# Altium footprint library PcbLib1.PcbLib: 26 footprints (part 1 of 2)
Each footprint in its own frame and in the unit in brackets; x right, y up, seen from the top. Pads: shape width x height; smd on the part's side, far side on the other; paste and mask are expansions set on the pad; w line width, h text height; cw(c..) or ccw(c..) is an arc to the next point about the centre after c.
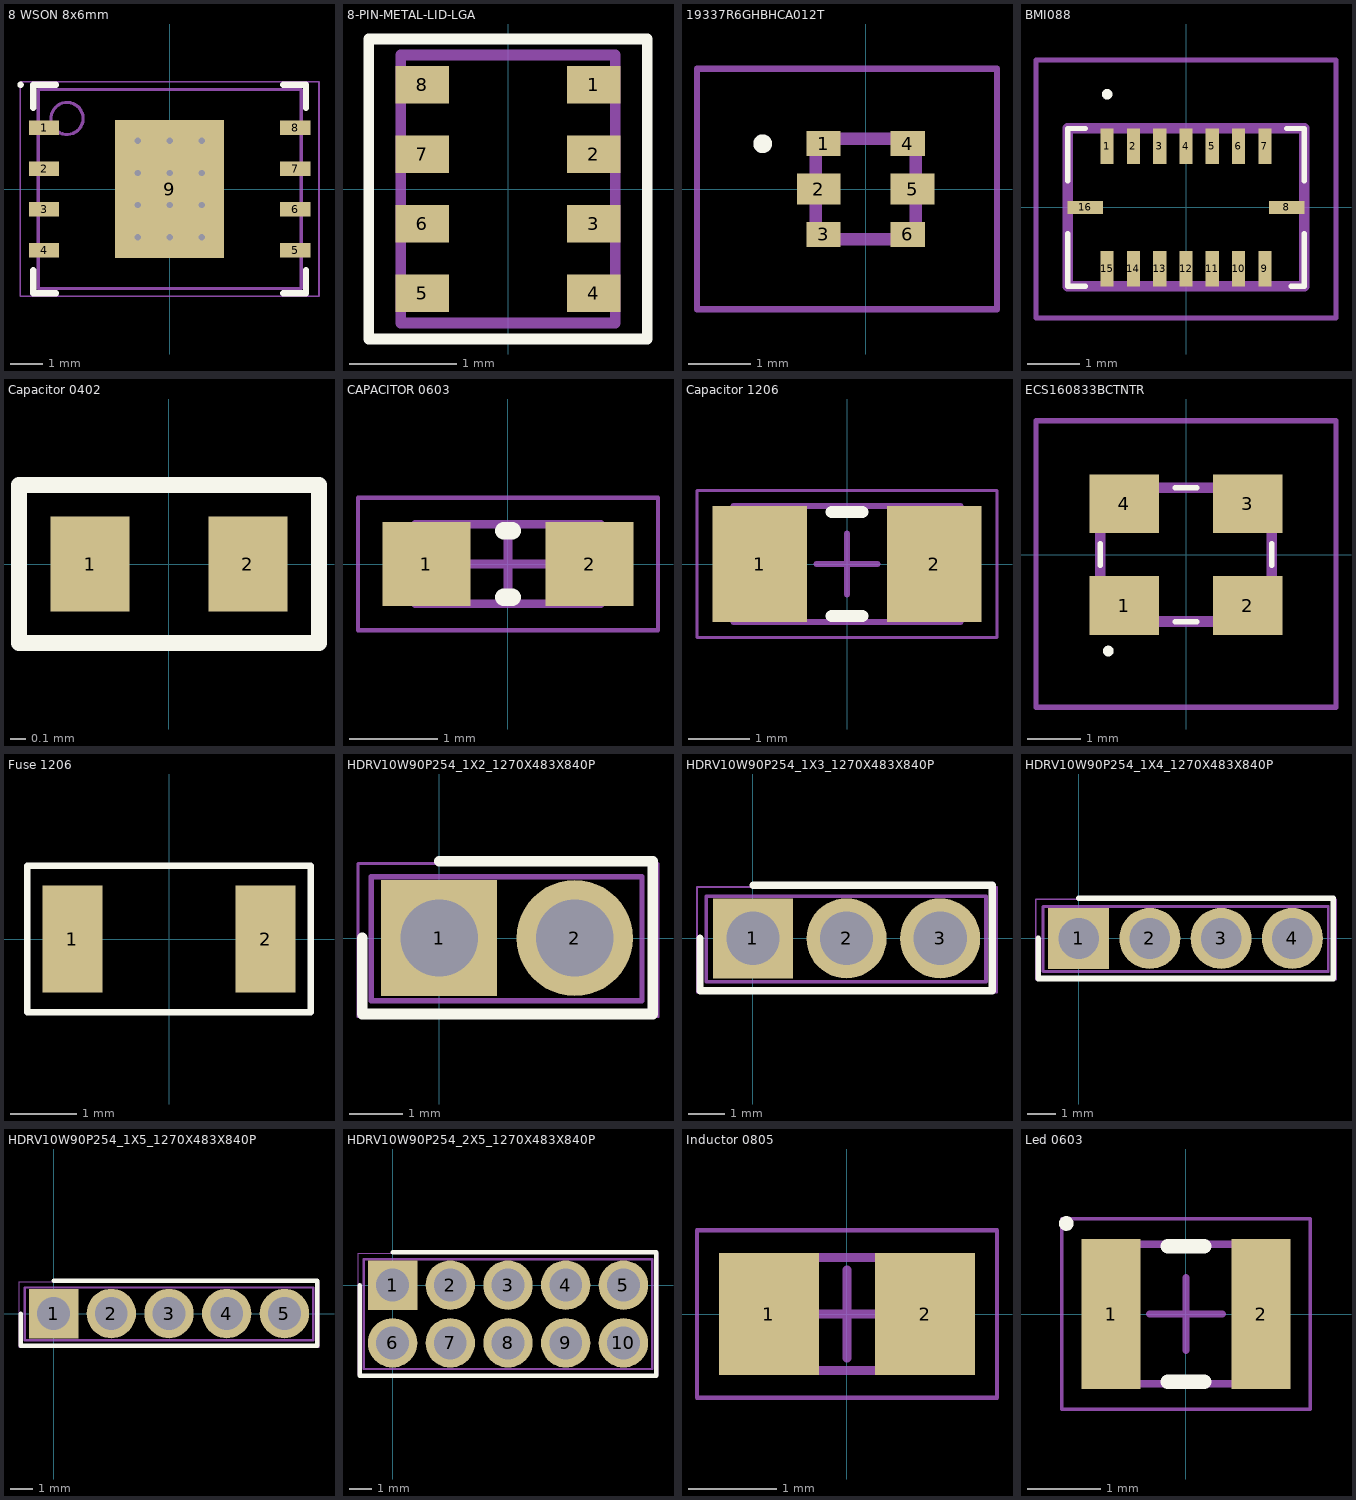
[diagram p0: the footprints below, top view; thin cyan lines are the x and y axes]

## 8 WSON 8x6mm [mm] "SON, 8-Leads, Body 6.10x8.10mm, Pitch 1.27mm, Thermal Pad 4.30x3.40mm, IPC Medium Density"
height 2.65
pads (9):
  rect 0.95x0.45 smd: 1(-3.92,1.905) 2(-3.92,0.635) 3(-3.92,-0.635) 4(-3.92,-1.905) 5(3.92,-1.905) 6(3.92,-0.635) 7(3.92,0.635) 8(3.92,1.905)
  rect 3.4x4.3 smd paste-1.7: 9(0,0)
via 1,-1.5 diameter 0.5 hole 0.2
via 0,-1.5 diameter 0.5 hole 0.2
via -1,-1.5 diameter 0.5 hole 0.2
via 1,-0.5 diameter 0.5 hole 0.2
via 0,-0.5 diameter 0.5 hole 0.2
via -1,-0.5 diameter 0.5 hole 0.2
via 1,0.5 diameter 0.5 hole 0.2
via 0,0.5 diameter 0.5 hole 0.2
via -1,0.5 diameter 0.5 hole 0.2
via 1,1.5 diameter 0.5 hole 0.2
via 0,1.5 diameter 0.5 hole 0.2
via -1,1.5 diameter 0.5 hole 0.2
Top Overlay:
  circle w0.1: c-4.65,3.25 r0.05
  lines w0.2: -4.25,-2.53 -4.25,-3.25 -3.545,-3.25 ; -4.25,2.53 -4.25,3.25 -3.545,3.25 ; 3.545,-3.25 4.25,-3.25 4.25,-2.53 ; 3.545,3.25 4.25,3.25 4.25,2.53
Top Paste:
  rectangle: 0.665,-2.045 1.595,-0.815
  rectangle: 0.665,-0.615 1.595,0.615
  rectangle: 0.665,0.815 1.595,2.045
  rectangle: -0.465,-2.045 0.465,-0.815
  rectangle: -0.465,-0.615 0.465,0.615
  rectangle: -0.465,0.815 0.465,2.045
  rectangle: -1.595,-2.045 -0.665,-0.815
  rectangle: -1.595,-0.615 -0.665,0.615
  rectangle: -1.595,0.815 -0.665,2.045
Mechanical 13:
  circle w0.1: c-3.2,2.2 r0.5
  lines w0.1: -4.1,-3.1 4.1,-3.1 4.1,3.1 -4.1,3.1 -4.1,-3.1
Mechanical 15:
  lines w0.05: -4.655,-3.35 4.655,-3.35 4.655,3.35 -4.655,3.35 -4.655,-3.35
  lines w0.1: -0.5,0 0.5,0 ; 0,-0.5 0,0.5
3D body "8 WSON 8x6mm.step": height 2.65, standoff 0, extent -4.1,-3.1 4.1,3.1

## 8-PIN-METAL-LID-LGA [mm]
pads (8):
  rect 0.5x0.35 smd: 1(0.8,0.975) 2(0.8,0.325) 3(0.8,-0.325) 4(0.8,-0.975) 5(-0.8,-0.975) 6(-0.8,-0.325) 7(-0.8,0.325) 8(-0.8,0.975)
Top Overlay:
  lines w0.1: -1.3,-1.4 1.3,-1.4 1.3,1.4 -1.3,1.4 -1.3,-1.4
Mechanical 13:
  lines w0.1: -1,-1.25 -1,1.25 1,1.25 1,-1.25 -1,-1.25

## 19337R6GHBHCA012T [mm]
pads (6):
  rect 0.55x0.4 smd: 1(-0.675,0.725) 3(-0.675,-0.725) 4(0.675,0.725) 6(0.675,-0.725)
  rect 0.7x0.5 smd: 2(-0.75,0) 5(0.75,0)
Top Overlay:
  lines w0.2: -1.7,0.725 ccw(c-1.65,0.725) -1.6,0.725 ; -1.7,0.725 cw(c-1.65,0.725) -1.6,0.725 ; -1.7,0.725 ccw(c-1.65,0.725) -1.6,0.725
Mechanical 13:
  lines w0.2: -0.8,-0.8 0.8,-0.8 0.8,0.8 -0.8,0.8 -0.8,-0.8
Mechanical 15:
  lines w0.1: -2.7,-1.925 2.1,-1.925 2.1,1.925 -2.7,1.925 -2.7,-1.925
3D body "19-337_R6GHBHC-A01_2T.stp": height 0.45, standoff 0, extent -0.8,-0.8 0.8,0.8

## BMI088 [mm]
pads (16):
  rect 0.25x0.675 smd: 1(-1.5,1.165) 2(-1,1.165) 3(-0.5,1.165) 4(0,1.165) 5(0.5,1.165) 6(1,1.165) 7(1.5,1.165) 9(1.5,-1.165) 10(1,-1.165) 11(0.5,-1.165) 12(0,-1.165) 13(-0.5,-1.165) 14(-1,-1.165) 15(-1.5,-1.165)
  rect 0.675x0.25 smd: 8(1.915,0) 16(-1.915,0)
Top Overlay:
  lines w0.1: -2.25,-0.5 -2.25,-1.5 -1.915,-1.5 ; -2.25,0.5 -2.25,1.5 -1.915,1.5 ; 1.915,1.5 2.25,1.5 2.25,0.5 ; 2,-1.5 2.25,-1.5 2.25,-0.5 ; -1.5,2.1 ccw(c-1.5,2.15) -1.5,2.2 ccw(c-1.5,2.15) -1.5,2.1
Mechanical 13:
  lines w0.2: -2.25,-1.5 -2.25,1.5 2.25,1.5 2.25,-1.5 -2.25,-1.5
Mechanical 15:
  lines w0.1: -2.852,-2.103 -2.852,2.8 2.852,2.8 2.852,-2.103 -2.852,-2.103
3D body "BMI088.stp": height 1.55, standoff 0, extent -2.25,-1.5 2.25,1.5

## Capacitor 0402 [mm] "Chip Capacitor 0402"
pads (2):
  rect 0.5x0.6 smd: 1(-0.5,0) 2(0.5,0)
Top Overlay:
  lines w0.1: -0.95,-0.5 0.95,-0.5 0.95,0.5 -0.95,0.5 -0.95,0 -0.95,-0.5

## CAPACITOR 0603 [mm] "Chip Capacitor 0603"
height 0.6
pads (2):
  rect 1x0.95 smd: 1(-0.925,0) 2(0.925,0)
Top Overlay:
  lines w0.2: -0.05,-0.375 0.05,-0.375 ; -0.05,0.375 0.05,0.375
Mechanical 13:
  lines w0.1: -1.05,-0.45 -1.05,0.45 1.05,0.45 1.05,-0.45 -1.05,-0.45
Mechanical 15:
  lines w0.05: -1.7,-0.75 -1.7,0.75 1.7,0.75 1.7,-0.75 -1.7,-0.75
  lines w0.1: -0.45,0 0.45,0 ; 0,-0.45 0,0.45
3D body: height 0.6, standoff 0, extent -0.45,-0.45 0.45,0.45
3D body: height 0.6, standoff 0, extent -1.05,-0.45 -0.45,0.45
3D body: height 0.6, standoff 0, extent 0.45,-0.45 1.05,0.45

## Capacitor 1206 [mm] "Chip Capacitor 1206"
height 1.2
pads (2):
  rect 1.55x1.9 smd: 1(-1.425,0) 2(1.425,0)
Top Overlay:
  lines w0.2: -0.25,-0.85 0.25,-0.85 ; -0.25,0.85 0.25,0.85
Mechanical 13:
  lines w0.1: -1.85,-0.95 1.85,-0.95 1.85,0.95 -1.85,0.95 -1.85,-0.95
Mechanical 15:
  lines w0.05: -2.45,-1.2 2.45,-1.2 2.45,1.2 -2.45,1.2 -2.45,-1.2
  lines w0.1: -0.5,0 0.5,0 ; 0,-0.5 0,0.5
3D body "Chip Capacitor 1206.step": height 1.2, standoff 0, extent -1.85,-0.95 1.85,0.95

## ECS160833BCTNTR [mm]
pads (4):
  rect 1.3x1.1 smd: 1(-1.15,-0.95) 2(1.15,-0.95) 3(1.15,0.95) 4(-1.15,0.95)
Top Overlay:
  lines w0.1: -1.6,-0.2 -1.6,0.2 ; -0.2,-1.25 0.2,-1.25 ; -0.2,1.25 0.2,1.25 ; 1.6,-0.2 1.6,0.2 ; -1.5,-1.8 cw(c-1.45,-1.8) -1.4,-1.8 cw(c-1.45,-1.8) -1.5,-1.8
Mechanical 13:
  lines w0.2: -1.6,-1.25 1.6,-1.25 1.6,1.25 -1.6,1.25 -1.6,-1.25
Mechanical 15:
  lines w0.1: -2.8,-2.85 2.8,-2.85 2.8,2.5 -2.8,2.5 -2.8,-2.85
3D body "ECS-160-8-33B-CTN-TR.stp": height 0.9, standoff 0, extent -1.69,-1.39 1.69,1.39

## Fuse 1206 [mm] "Chip Capacitor 1206"
pads (2):
  rect 0.9x1.6 smd: 1(-1.45,0) 2(1.45,0)
Top Overlay:
  lines w0.1: -2.125,-1.1 2.125,-1.1 2.125,1.1 -2.125,1.1 -2.125,0.556 -2.125,-0.531 -2.125,-1.1

## HDRV10W90P254_1X2_1270X483X840P [mm]
pads (2):
  rect 2.175x2.175 hole 1.45: 1(0,0)
  round 2.175 hole 1.45: 2(2.54,0)
Top Overlay:
  lines w0.2: -1.438,0 -1.438,-1.425 4,-1.425 4,1.438 0,1.438
Mechanical 13:
  lines w0.1: -1.27,-1.175 3.8,-1.175 3.8,1.145 -1.27,1.145 -1.27,-1.175
Mechanical 15:
  lines w0.05: -1.52,-1.475 4.1,-1.475 4.1,1.395 -1.52,1.395 -1.52,-1.475
3D body: height 0.25, standoff 0, extent -4.875,-2.425 7.825,2.405

## HDRV10W90P254_1X3_1270X483X840P [mm]
pads (3):
  rect 2.175x2.175 hole 1.45: 1(0,0)
  round 2.175 hole 1.45: 2(2.54,0) 3(5.08,0)
Top Overlay:
  lines w0.2: -1.438,0 -1.438,-1.425 6.5,-1.425 6.5,1.438 0,1.438
Mechanical 13:
  lines w0.1: -1.27,-1.175 6.325,-1.175 6.325,1.145 -1.27,1.145 -1.27,-1.175
Mechanical 15:
  lines w0.05: -1.52,-1.475 6.625,-1.475 6.625,1.395 -1.52,1.395 -1.52,-1.475
3D body: height 0.25, standoff 0, extent -3.85,-2.4 8.85,2.43

## HDRV10W90P254_1X4_1270X483X840P [mm]
pads (4):
  rect 2.175x2.175 hole 1.45: 1(0,0)
  round 2.175 hole 1.45: 2(2.54,0) 3(5.08,0) 4(7.62,0)
Top Overlay:
  lines w0.2: -1.438,0 -1.438,-1.425 9.075,-1.425 9.075,1.438 0,1.438
Mechanical 13:
  lines w0.1: -1.27,-1.175 -1.27,1.145 8.9,1.145 8.9,-1.175 -1.27,-1.175
Mechanical 15:
  lines w0.05: -1.52,-1.475 -1.52,1.395 9.175,1.395 9.175,-1.475 -1.52,-1.475
3D body: height 0.25, standoff 0, extent -2.525,-2.465 10.175,2.365

## HDRV10W90P254_1X5_1270X483X840P [mm]
pads (5):
  rect 2.175x2.175 hole 1.45: 1(0,0)
  round 2.175 hole 1.45: 2(2.54,0) 3(5.08,0) 4(7.62,0) 5(10.16,0)
Top Overlay:
  lines w0.2: -1.438,0 -1.438,-1.425 11.597,-1.425 11.597,1.438 0,1.438
Mechanical 13:
  lines w0.1: -1.27,-1.175 11.43,-1.175 11.43,1.145 -1.27,1.145 -1.27,-1.175
Mechanical 15:
  lines w0.05: -1.52,-1.475 11.68,-1.475 11.68,1.395 -1.52,1.395 -1.52,-1.475
3D body: height 0.25, standoff 0, extent -1.275,-2.525 11.425,2.305

## HDRV10W90P254_2X5_1270X483X840P [mm]
pads (10):
  rect 2.175x2.175 hole 1.45: 1(0,0)
  round 2.175 hole 1.45: 2(2.54,0) 3(5.08,0) 4(7.62,0) 5(10.16,0) 6(0,-2.54) 7(2.54,-2.54) 8(5.08,-2.54) 9(7.62,-2.54) 10(10.16,-2.54)
Top Overlay:
  lines w0.2: -1.438,0 -1.438,-3.977 11.597,-3.977 11.597,1.438 0,1.438
Mechanical 13:
  lines w0.1: -1.27,-3.685 11.43,-3.685 11.43,1.145 -1.27,1.145 -1.27,-3.685
Mechanical 15:
  lines w0.05: -1.52,-3.935 11.68,-3.935 11.68,1.395 -1.52,1.395 -1.52,-3.935
3D body "77313-101-10LF.stp": height 8.4, standoff -2.41, extent -1.27,-3.685 11.43,1.145

## Inductor 0805 [mm] "Chip Inductor 0805"
height 0.87
pads (2):
  rect 1.13x1.38 smd: 1(-0.885,0) 2(0.885,0)
Mechanical 13:
  lines w0.1: -1.1,-0.64 1.1,-0.64 1.1,0.64 -1.1,0.64 -1.1,-0.64
Mechanical 15:
  lines w0.05: -1.7,-0.95 1.7,-0.95 1.7,0.95 -1.7,0.95 -1.7,-0.95
  lines w0.1: -0.5,0 0.5,0 ; 0,-0.5 0,0.5
3D body "Inductor 0805.step": height 0.87, standoff 0, extent -1.1,-0.64 1.1,0.64

## Led 0603 [mm] "Chip LED 0603"
height 1.1
pads (2):
  rect 0.8x2.05 smd: 1(-1.025,0) 2(1.025,0)
Top Overlay:
  circle w0.1: c-1.637,1.237 r0.05
  lines w0.2: -0.25,-0.925 0.25,-0.925 ; -0.25,0.925 0.25,0.925
Mechanical 13:
  lines w0.1: -1.05,-0.955 1.05,-0.955 1.05,0.955 -1.05,0.955 -1.05,-0.955
Mechanical 15:
  lines w0.05: -1.7,-1.3 1.7,-1.3 1.7,1.3 -1.7,1.3 -1.7,-1.3
  lines w0.1: -0.5,0 0.5,0 ; 0,-0.5 0,0.5
3D body "Led 0603.step": height 1.1, standoff 0, extent -1.05,-0.955 1.05,0.955